# Altium schematic symbol library Capacitor.SchLib: 29 symbols
Pins are listed as number, name and electrical type; pins without a type are passive.

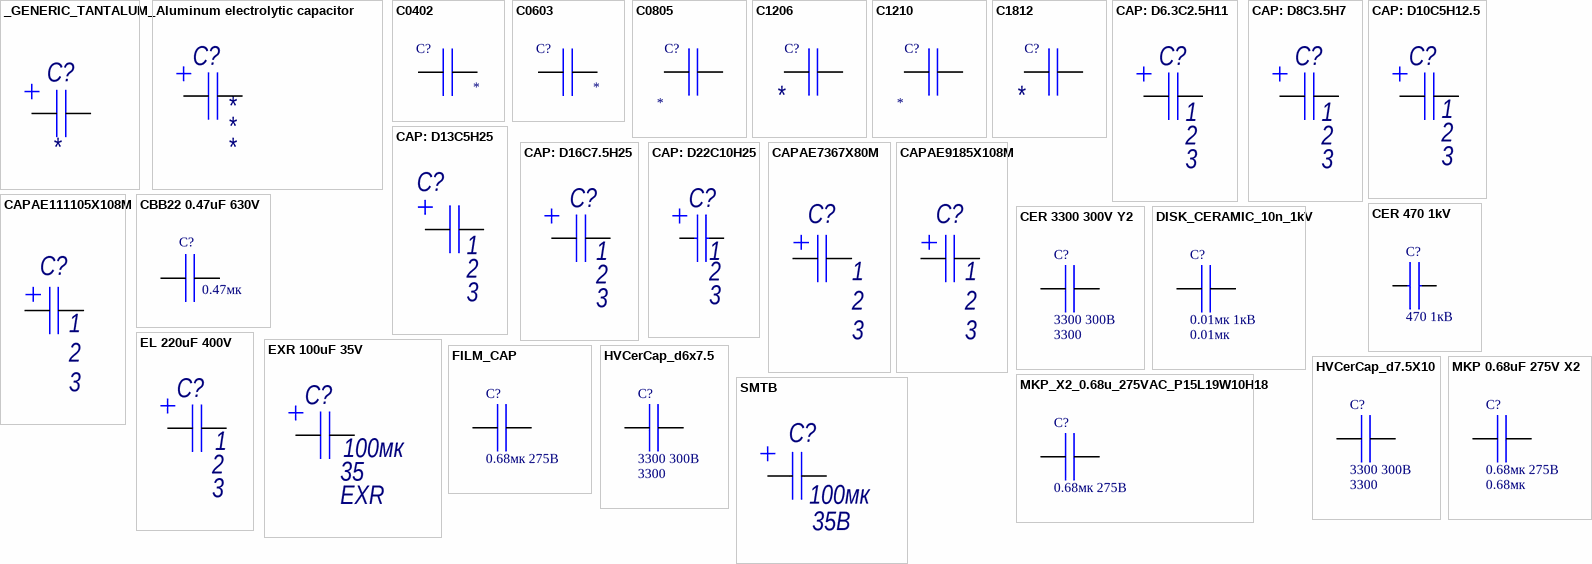
[diagram p0: symbols _GENERIC_TANTALUM_ to SMTB]

## _GENERIC_TANTALUM_
designator C?
Конденсатор танталовый SMD; Voltage: *; ComponentDescription: =ComponentType+', '+Package+', '+Voltage+'В, '+Value+', '+Dielectric; ComponentType: Конденсатор танталовый SMD; Dielectric: *; Value: *
footprint Capacitor, SM Tantalum; Body 7.3 x 4.3 mm (LxW typ)
pins: 1, 2

## Aluminum electrolytic capacitor
designator C?
Конденсатор электролитический; ComponentDescription: =ComponentType+', '+Value+', '+Voltage+', '+Type+', '+Package; ComponentType: Конденсатор электролитический; Voltage: *; Value: *; Type: *
footprint CAP: D6.3C2.5H11
footprint CAP: D6.3C2.5H11
footprint CAP: D6.3C2.5H11
footprint CAP: D6.3C2.5H11
footprint CAP: D6.3C2.5H11
footprint CAP: D6.3C2.5H11
footprint CAP: D6.3C2.5H11
footprint CAP: D6.3C2.5H11
footprint CAP: D6.3C2.5H11
footprint CAP: D6.3C2.5H11
footprint CAP: D6.3C2.5H11
footprint CAP: D6.3C2.5H11
footprint CAP: D6.3C2.5H11
footprint CAP: D6.3C2.5H11
footprint CAP: D6.3C2.5H11
footprint CAP: D6.3C2.5H11
footprint CAP: D6.3C2.5H11
footprint CAP: D6.3C2.5H11
footprint CAP: D6.3C2.5H11
footprint CAP: D6.3C2.5H11
footprint CAP: D6.3C2.5H11
footprint CAP: D6.3C2.5H11
footprint CAP: D6.3C2.5H11
footprint CAP: D6.3C2.5H11
footprint CAP: D6.3C2.5H11
footprint CAP: D6.3C2.5H11
footprint CAP: D5C2H11
footprint CAP: D6.3C2.5H11
footprint CAP: D6.3C2.5H16
footprint CAP: D8C3.5H12
footprint CAP: D10C5H12.5
footprint CAP: D10C5H16
footprint CAP: D10C5H20
footprint CAP: D13C5H20
footprint CAP: D13C5H25
footprint CAP: D16C7.5H25
footprint CAP: D16C7.5H31.5
footprint CAP: D18C7.5H25
footprint CAP: D18C7.5H32
footprint CAP: D18C7.5H32 (H)
footprint CAP: D18C7.5H40
footprint CAP: D22C10H25
footprint CAP: D25C10H50
footprint CAP: D30C10H37
footprint CAP: D30C10.5H47
footprint CAP: D35C10H40
footprint CAP: D35C10.5H50
footprint CAPPR10-35X35 (Capacitor, Electrolytic, Radial; Body 35 x 35 mm (Dia.xH typ); Pin Spacing 10 mm (typ))
footprint ElCapRA-3.5-8x16
footprint ElCapRA-3.5-8x16-LA
footprint CAP: D8C3.5H7
footprint ElCapRA-2.5-6.3x12
footprint ElCapRA-5-13x25-LA
footprint ElCapRA-5-13x25
pins: 1, 2

## C0402
designator C?
ComponentType: Конденсатор керамический SMD; Value: *; Voltage: *; Dielectric: *; ComponentDescription: =ComponentType+', '+Package+', '+Voltage+'В, '+Value+', '+Dielectric
footprint C-0402 (Chip Capacitor, 2-Leads, Body 1,60x0,83mm, IPC Medium Density)
pins: 1, 2

## C0603
designator C?
ComponentType: Конденсатор керамический SMD; Value: *; Voltage: *; Dielectric: *; ComponentDescription: =ComponentType+', '+Package+', '+Voltage+'В, '+Value+', '+Dielectric
footprint C-0603 (Chip Capacitor, 2-Leads, Body 1,60x0,83mm, IPC Medium Density)
pins: 1, 2

## C0805
designator C?
Voltage: *; ComponentDescription: =ComponentType+', '+Package+', '+Voltage+'В, '+Value+', '+Dielectric; ComponentType: Конденсатор керамический SMD; Dielectric: *; Value: *
footprint C-0805 (Chip Capasitor, 2-Leads, Body 2,00x1,25mm, IPC Medium Density)
pins: 1, 2

## C1206
designator C?
Voltage: *; ComponentDescription: =ComponentType+', '+Package+', '+Voltage+'В, '+Value+', '+Dielectric; ComponentType: Конденсатор керамический SMD; Dielectric: *; Value: *
footprint C-1206 (Chip Capasitor, 2-Leads, Body 3,20x1,60mm, IPC Medium Density)
pins: 1, 2

## C1210
designator C?
Voltage: *; ComponentDescription: =ComponentType+', '+Package+', '+Voltage+'В, '+Value+', '+Dielectric; ComponentType: Конденсатор керамический SMD; Dielectric: *; Value: *
footprint C-1210 (Chip Capacitor, Body 3.2x2.5mm, IPC Medium Density)
pins: 1, 2

## C1812
designator C?
Voltage: *; ComponentDescription: =ComponentType+', '+Package+', '+Voltage+'В, '+Value+', '+Dielectric; ComponentType: Конденсатор керамический SMD; Dielectric: *; Value: *
footprint C-1812 (Chip Capacitor, 2-Leads, Body 4,50x3,20mm, IPC Medium Density)
pins: 1, 2

## CAP: D6.3C2.5H11
designator C?, comment Voltage: 2  Dielectric: 3  (hidden comment: 1)
Конденсатор электролитический; ComponentDescription: =ComponentType+', '+Value+', '+Voltage+', '+Dielectric+', '+Package; ComponentType: Конденсатор электролитический; Value: 1
footprint CAP: D6.3C2.5H11
pins: 1, 2

## CAP: D8C3.5H7
designator C?, comment Voltage: 2  Dielectric: 3  (hidden comment: 1)
Конденсатор электролитический; ComponentDescription: =ComponentType+', '+Value+', '+Voltage+', '+Dielectric+', '+Package; ComponentType: Конденсатор электролитический; Value: 1
footprint CAP: D8C3.5H7
pins: 1, 2

## CAP: D10C5H12.5
designator C?, comment Voltage: 2  Dielectric: 3  (hidden comment: 1)
Конденсатор электролитический; ComponentDescription: =ComponentType+', '+Value+', '+Voltage+', '+Dielectric+', '+Package; ComponentType: Конденсатор электролитический; Value: 1
footprint CAP: D10C5H12.5
pins: 1, 2

## CAP: D13C5H25
designator C?, comment Voltage: 2  Dielectric: 3  (hidden comment: 1)
Конденсатор электролитический; ComponentDescription: =ComponentType+', '+Value+', '+Voltage+', '+Dielectric+', '+Package; ComponentType: Конденсатор электролитический; Value: 1
footprint CAP: D13C5H25
pins: 1, 2

## CAP: D16C7.5H25
designator C?, comment Dielectric: 2  Voltage: 3  (hidden comment: 1)
Конденсатор электролитический; ComponentDescription: =ComponentType+', '+Value+', '+Voltage+', '+Dielectric+', '+Package; ComponentType: Конденсатор электролитический; Value: 1
footprint CAP: D16C7.5H25
footprint CAP: D16C7.5H25_H
pins: 1, 2

## CAP: D22C10H25
designator C?, comment Voltage: 2  Dielectric: 3  (hidden comment: 1)
Конденсатор электролитический; ComponentDescription: =ComponentType+', '+Value+', '+Voltage+', '+Dielectric+', '+Package; ComponentType: Конденсатор электролитический; Value: 1
footprint CAP: D22C10H25
pins: 1 +, 2

## CAPAE7367X80M
designator C?, comment Voltage: 2  Dielectric: 3  (hidden comment: 1)
Конденсатор электролитический SMD; ComponentDescription: =ComponentType+', '+Value+', '+Voltage+', '+Dielectric+', '+Package; ComponentType: Конденсатор электролитический SMD; Value: 1
footprint CAPAE7367X80M (Aluminum Electrolytic Capacitor, Body 6,70x6,70x8,00mm, IPC Low Density)
pins: 1 +, 2

## CAPAE9185X108M
designator C?, comment Voltage: 2  Dielectric: 3  (hidden comment: 1)
Конденсатор электролитический SMD; ComponentDescription: =ComponentType+', '+Value+', '+Voltage+', '+Dielectric+', '+Package; ComponentType: Конденсатор электролитический SMD; Value: 1
footprint CAPAE9185X108M (Aluminum Electrolytic Capacitor, Body 8,50x8,50x10,80mm, IPC Low Density)
pins: 1 +, 2

## CAPAE111105X108M
designator C?, comment Voltage: 2  Dielectric: 3  (hidden comment: 1)
Конденсатор электролитический SMD; ComponentDescription: =ComponentType+', '+Value+', '+Voltage+', '+Dielectric+', '+Package; ComponentType: Конденсатор электролитический SMD; Value: 1
footprint CAPAE111105X108M (Aluminum Electrolytic Capacitor, Body 10,50x10,50x10,80mm, IPC Low Density)
pins: 1 +, 2

## CBB22 0.47uF 630V
designator C?, comment value 0.47мк  (hidden comment: 0.47мк 630В)
Конденсатор металло-плёночный; Dielectric: СВВ22; Voltage: 630В; ComponentDescription: =ComponentType+', '+Value+', '+Voltage+', '+Dielectric+', '+Package; ComponentType: Конденсатор металло-плёночный
footprint CAP23X9X19mm
pins: 1, 2

## CER 470 1kV
designator C?, comment 470 1кВ
Конденсатор керамический; Value: 470; Voltage: 1кВ; ComponentDescription: =ComponentType+', '+Value+', '+Voltage+', '+Dielectric+', '+Package; ComponentType: Конденсатор керамический
footprint RX600Y200P400,300,200
pins: 1, 2

## CER 3300 300V Y2
designator C?, comment 3300 300В  value 3300
Конденсатор керамический; Dielectric: Y2; Voltage: 300В; ComponentDescription: =ComponentType+', '+Value+', '+Voltage+', '+Dielectric+', '+Package; ComponentType: Конденсатор керамический
footprint RX450Y200P400
pins: 1, 2

## DISK_CERAMIC_10n_1kV
designator C?, comment 0.01мк 1кВ  value 0.01мк
Конденсатор керамический; Dielectric: Y2; Voltage: 1кВ; ComponentDescription: =ComponentType+', '+Value+', '+Voltage+', '+Dielectric+', '+Package; ComponentType: Конденсатор керамический
footprint HVCerCap_d6x7.5
pins: 1, 2

## EL 220uF 400V
designator C?, comment Voltage: 2  Dielectric: 3  (hidden comment: 1)
Конденсатор электролитический; ComponentDescription: =ComponentType+', '+Value+', '+Voltage+', '+Dielectric+', '+Package; ComponentType: Конденсатор электролитический; Value: 1
footprint EX1000Y1000P400
pins: 1 +, 2

## EXR 100uF 35V
designator C?, comment Voltage: 35  Dielectric: EXR  (hidden comment: 100мк)
Конденсатор электролитический; ComponentDescription: =ComponentType+', '+Value+', '+Voltage+', '+Dielectric+', '+Package; ComponentType: Конденсатор электролитический; Value: 100мк
footprint CAP: D8C3.5H12
pins: 1 +, 2

## FILM_CAP
designator C?, comment 0.68мк 275В
Конденсатор пленочный; Dielectric: X2; Voltage: 275В; ComponentDescription: =ComponentType+', '+Value+', '+Voltage+', '+Dielectric+', '+Package; ComponentType: Конденсатор пленочный; Value: 0.68мк
footprint FILM_P1500L1800W1100H1400PD80 (Film Capacitor)
footprint FILM_P1500L1800W900H1600PD80 (Film Capacitor)
footprint CAP26X12X16,23mm
footprint FILM_P1000L500W1100H1300PD60 (Film Capacitor)
footprint FILM_P2250L2650W850H1850PD80 (Film Capacitor)
footprint FILM_P2250L2650W1050H1900PD80 (Film Capacitor)
footprint FILM_P1500L1900W1000H1800PD80 (Film Capacitor)
footprint FILM_P1500L1800W500H1300PD80 (Film Capacitor)
pins: 1, 2

## HVCerCap_d6x7.5
designator C?, comment 3300 300В  value 3300
Конденсатор керамический; Dielectric: Y2; Voltage: 300В; ComponentDescription: =ComponentType+', '+Value+', '+Voltage+', '+Dielectric+', '+Package; ComponentType: Конденсатор керамический
footprint HVCerCap_d6x7.5
pins: 1, 2

## HVCerCap_d7.5X10
designator C?, comment 3300 300В  value 3300
Конденсатор керамический; Dielectric: Y2; Voltage: 300В; ComponentDescription: =ComponentType+', '+Value+', '+Voltage+', '+Dielectric+', '+Package; ComponentType: Конденсатор керамический
footprint HVCerCap_d7.5x10
pins: 1, 2

## MKP 0.68uF 275V X2
designator C?, comment 0.68мк 275В  value 0.68мк
Конденсатор пленочный; Dielectric: X2; Voltage: 275В; ComponentDescription: =ComponentType+', '+Value+', '+Voltage+', '+Dielectric+', '+Package; ComponentType: Конденсатор пленочный
footprint CAP26X12X16,23mm
pins: 1, 2,3

## MKP_X2_0.68u_275VAC_P15L19W10H18
designator C?, comment 0.68мк 275В
Конденсатор пленочный; Dielectric: X2; Voltage: 275В; ComponentDescription: =ComponentType+', '+Value+', '+Voltage+', '+Dielectric+', '+Package; ComponentType: Конденсатор пленочный; Value: 0.68мк
footprint FILM_P1500L1900W1000H1800PD80 (Film Capacitor)
pins: 1, 2

## SMTB
designator C?, comment value 100мк  Voltage: 35В  (hidden comment: 100мк 35В Конденсатор танталовый)
Конденсатор танталовый; Dielectric: SMTB; ComponentDescription: =ComponentType+', '+Package+', '+Voltage+', '+Value+', '+Dielectric; ComponentType: Конденсатор танталовый
footprint CAPCP3529X22N (Chip Capacitor, 2-Leads, Body 3,50x2,88mm, IPC Medium Density)
pins: 1, 2